# Altium schematic symbol library DHT21.SchLib: 1 symbol
Pins are listed as number, name and electrical type; pins without a type are passive.

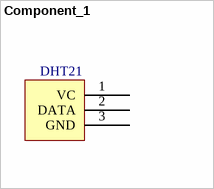
[diagram p0: symbol Component_1]

## Component_1
designator *
pins: 1 VC, 2 DATA, 3 GND
text: DHT21